# Altium footprint library Single In-Line with Mounting Hole.PcbLib: 13 footprints
Each footprint in its own frame and in the unit in brackets; x right, y up, seen from the top. Pads: shape width x height; smd on the part's side, far side on the other; paste and mask are expansions set on the pad; w line width, h text height; cw(c..) or ccw(c..) is an arc to the next point about the centre after c.
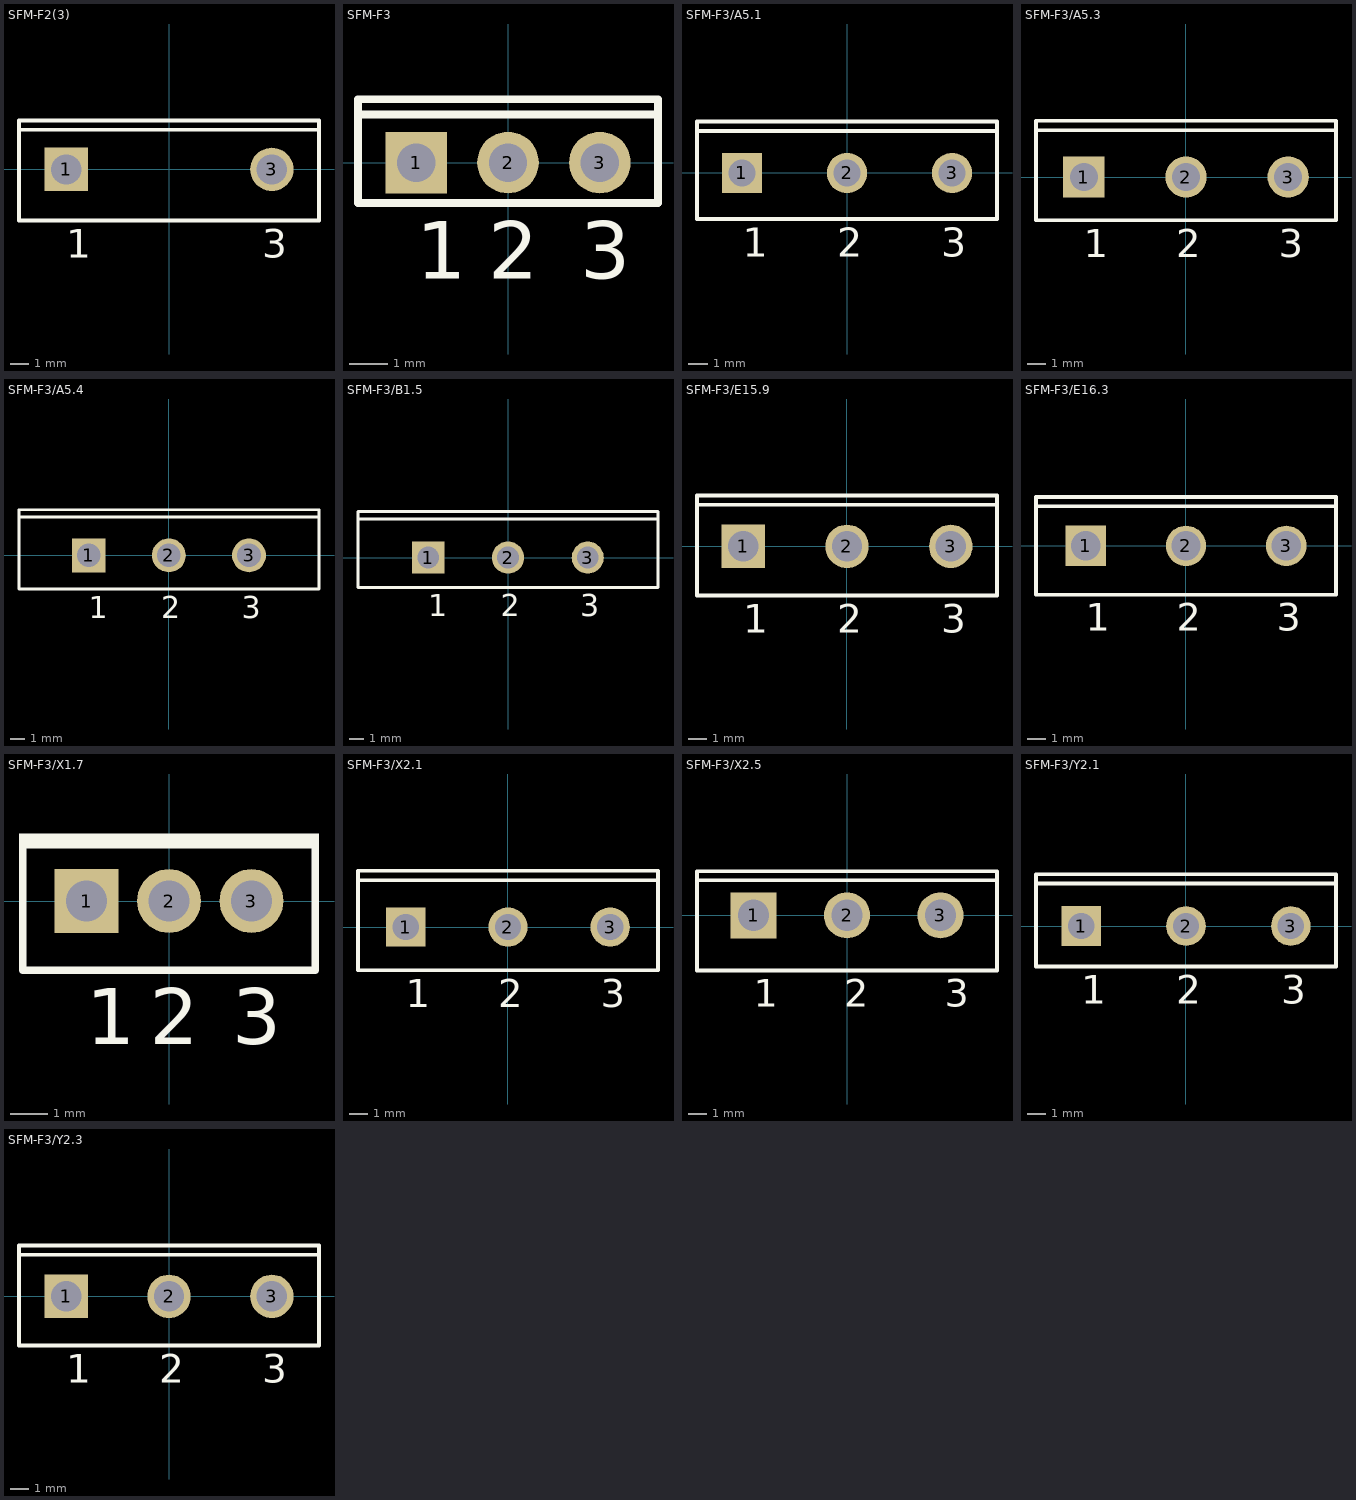
[diagram p0: the footprints below, top view; thin cyan lines are the x and y axes]

## SFM-F2(3) [mm] "SIP with Mounting Hole; 2 Leads; Body 20 x 15.6 x 5 mm (typ)"
height 24.6
pads (2):
  rect 2.3x2.3 hole 1.6: 1(-5.45,0)
  round 2.3 hole 1.6: 3(5.45,0)
Top Overlay:
  lines w0.2: -7.95,2.1 7.95,2.1 ; -7.95,-2.7 -7.95,2.6 7.95,2.6 7.95,-2.7 -7.95,-2.7
  text "1" at -5.45,-4.675 h1.5
  text "3" at 4.942,-4.675 h1.5

## SFM-F3 [mm] "SIP with Mounting Hole; 3 Leads; Body 11 x 7.6 x 2.5 mm (typ); Pitch 2.39 mm"
height 13.5
pads (3):
  rect 1.6x1.6 hole 1: 1(-2.39,0)
  round 1.6 hole 1: 2(0,0) 3(2.39,0)
Top Overlay:
  lines w0.2: -3.9,1.25 3.9,1.25 ; -3.9,-1.05 -3.9,1.65 3.9,1.65 3.9,-1.05 3.7,-1.05 -3.9,-1.05
  text "1" at -2.39,-3.025 h1.5
  text "3" at 1.882,-3.025 h1.5
  text "2" at -0.508,-3.025 h1.5

## SFM-F3/A5.1 [mm] "SIP with Mounting Hole; 3 Leads; Pitch 5.5 mm"
height 24.2
pads (3):
  rect 2.1x2.1 hole 1.4: 1(-5.5,0)
  round 2.1 hole 1.4: 2(0,0) 3(5.5,0)
Top Overlay:
  lines w0.2: -7.85,2.2 7.85,2.2 ; -7.85,-2.4 -7.85,2.7 7.85,2.7 7.85,-2.4 -7.85,-2.4
  text "3" at 4.93,-4.375 h1.5
  text "2" at -0.52,-4.375 h1.5
  text "1" at -5.462,-4.375 h1.5

## SFM-F3/A5.3 [mm] "SIP with Mounting Hole; 3 Leads; Body 20.5 x 15.5 x 5 mm (typ); Pitch 5.45 mm"
height 25
pads (3):
  rect 2.2x2.2 hole 1.5: 1(-5.45,0)
  round 2.2 hole 1.5: 2(0,0) 3(5.45,0)
Top Overlay:
  lines w0.2: -8,2.5 8,2.5 ; -8,-2.3 -8,3 8,3 8,-2.3 -8,-2.3
  text "3" at 4.942,-4.275 h1.5
  text "2" at -0.508,-4.275 h1.5
  text "1" at -5.45,-4.275 h1.5

## SFM-F3/A5.4 [mm] "SIP with Mounting Hole; 3 Leads; Body 26 x 19.8 x 5 mm (typ); Pitch 5.45 mm"
height 29.3
pads (3):
  rect 2.3x2.3 hole 1.6: 1(-5.45,0)
  round 2.3 hole 1.6: 2(0,0) 3(5.45,0)
Top Overlay:
  lines w0.2: -10.19,2.6 10.21,2.6 ; -10.19,-2.3 10.21,-2.3 10.21,3.1 -10.19,3.1 -10.19,-2.3
  text "1" at -5.45,-4.275 h1.5
  text "2" at -0.508,-4.275 h1.5
  text "3" at 4.942,-4.275 h1.5

## SFM-F3/B1.5 [mm] "SIP with Mounting Hole; 3 Leads; Body 26 x 20 x 5 mm (typ); Pitch 5.45 mm"
height 29
pads (3):
  rect 2.2x2.2 hole 1.5: 1(-5.45,0)
  round 2.2 hole 1.5: 2(0,0) 3(5.45,0)
Top Overlay:
  lines w0.2: -10.25,2.65 10.25,2.65 ; -10.25,-2.05 10.25,-2.05 10.25,3.15 -10.25,3.15 -10.25,-2.05
  text "1" at -5.45,-4.025 h1.5
  text "2" at -0.508,-4.025 h1.5
  text "3" at 4.942,-4.025 h1.5

## SFM-F3/E15.9 [mm] "SIP with Mounting Hole; 3 Leads; Body 20 x 15.6 x 5 mm (typ); Pitch 5.5 mm"
height 24.6
pads (3):
  rect 2.3x2.3 hole 1.6: 1(-5.5,0)
  round 2.3 hole 1.6: 2(0,0) 3(5.5,0)
Top Overlay:
  lines w0.2: -7.95,2.2 7.95,2.2 ; -7.95,-2.6 7.95,-2.6 7.95,2.7 -7.95,2.7 -7.95,-2.6
  text "1" at -5.5,-4.575 h1.5
  text "2" at -0.508,-4.575 h1.5
  text "3" at 4.992,-4.575 h1.5

## SFM-F3/E16.3 [mm] "SIP with Mounting Hole; 3 Leads; Body 21.6 x 16 x 5 mm (typ); Pitch 5.45 mm"
height 26.5
pads (3):
  rect 2.2x2.2 hole 1.6: 1(-5.45,0)
  round 2.2 hole 1.6: 2(0,0) 3(5.45,0)
Top Overlay:
  lines w0.2: -8.15,2.15 8.15,2.15 ; -8.15,-2.65 8.15,-2.65 8.15,2.65 -8.15,2.65 -8.15,-2.65
  text "1" at -5.45,-4.625 h1.5
  text "2" at -0.508,-4.625 h1.5
  text "3" at 4.942,-4.625 h1.5

## SFM-F3/X1.7 [mm] "SIP with Mounting Hole; 3 Leads; Body 10.7 x 7.6 x 2.6 mm (typ); Pitch 2.2 mm"
height 13.4
pads (3):
  rect 1.7x1.7 hole 1.1: 1(-2.2,0)
  round 1.7 hole 1.1: 2(0,0) 3(2.2,0)
Top Overlay:
  rectangle: -4,1.4 4,1.8
  lines w0.2: -3.9,1.4 -3.9,-1.85 3.9,-1.85 3.9,1.4
  text "1" at -2.2,-3.825 h1.5
  text "2" at -0.508,-3.825 h1.5
  text "3" at 1.692,-3.825 h1.5

## SFM-F3/X2.1 [mm] "SIP with Mounting Hole; 3 Leads; Body 20.7 x 15.7 x 5 mm (typ); Pitch 5.45 mm"
height 24.3
pads (3):
  rect 2.1x2.1 hole 1.4: 1(-5.45,0)
  round 2.1 hole 1.4: 2(0,0) 3(5.45,0)
Top Overlay:
  lines w0.2: -8,2.5 8,2.5 ; -8,-2.3 8,-2.3 8,3 -8,3 -8,-2.3
  text "1" at -5.45,-4.275 h1.5
  text "2" at -0.508,-4.275 h1.5
  text "3" at 4.942,-4.275 h1.5

## SFM-F3/X2.5 [mm] "SIP with Mounting Hole; 3 Leads; Body 22 x 16 x 5 mm (typ); Pitch 5.08 mm"
height 28.8
pads (3):
  rect 2.5x2.5 hole 1.7: 1(-5.08,0)
  round 2.5 hole 1.7: 2(0,0) 3(5.08,0)
Top Overlay:
  lines w0.2: -8.15,1.9 8.15,1.9 ; -8.15,-3 -8.15,2.4 8.15,2.4 8.15,-3 -8.15,-3
  text "3" at 5.312,-4.975 h1.5
  text "2" at -0.138,-4.975 h1.5
  text "1" at -5.08,-4.975 h1.5

## SFM-F3/Y2.1 [mm] "SIP with Mounting Hole; 3 Leads; Body 20.6 x 15.6 x 4.7 mm (typ); Pitch 5.56 mm"
height 24.8
pads (3):
  rect 2.1x2.1 hole 1.4: 1(-5.56,0)
  round 2.1 hole 1.4: 2(0,0) 3(5.56,0)
Top Overlay:
  lines w0.2: -7.95,2.25 7.89,2.25 ; -7.95,-2.15 -7.95,2.75 7.95,2.75 7.95,-2.15 -7.95,-2.15
  text "3" at 5.052,-4.125 h1.5
  text "2" at -0.508,-4.125 h1.5
  text "1" at -5.56,-4.125 h1.5

## SFM-F3/Y2.3 [mm] "SIP with Mounting Hole; 3 Leads; Body 20 x 15.6 x 5 mm (typ); Pitch 5.45 mm"
height 24.6
pads (3):
  rect 2.3x2.3 hole 1.6: 1(-5.45,0)
  round 2.3 hole 1.6: 2(0,0) 3(5.45,0)
Top Overlay:
  lines w0.2: -7.95,2.2 7.95,2.2 ; -7.95,-2.6 7.95,-2.6 7.95,2.7 -7.95,2.7 -7.95,-2.6
  text "1" at -5.45,-4.575 h1.5
  text "2" at -0.508,-4.575 h1.5
  text "3" at 4.942,-4.575 h1.5